# EAGLE library part 8X2_LCD (library custom)
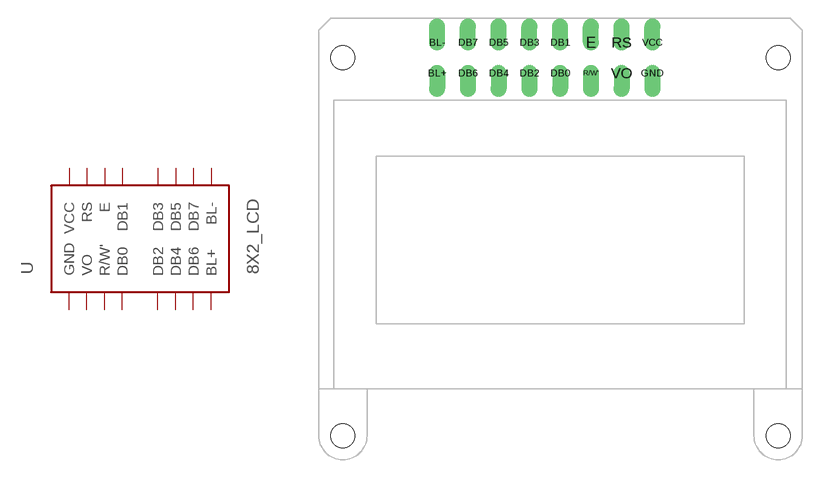
[diagram p3: symbol with the pads of 8X2_LCD_40MM; footprint 8X2_LCD_40MM]

Designator prefix -

## 8X2_LCD  [8X2_LCD_40MM]
BL+  BL+
BL-  BL-  pas
DB0  DB0
DB1  DB1
DB2  DB2
DB3  DB3
DB4  DB4
DB5  DB5
DB6  DB6
DB7  DB7
E  E  in
GND  GND
R/W'  R/W'
RS  RS  in
VCC  VCC  pwr
VO  VO

## Footprint 8X2_LCD_40MM (pad centres in mm)
drill 0.8 offset: BL+ -8.89,-1.27; BL- -8.89,1.27; DB0 1.27,-1.27; DB1 1.27,1.27; DB2 -1.27,-1.27; DB3 -1.27,1.27; DB4 -3.81,-1.27; DB5 -3.81,1.27; DB6 -6.35,-1.27; DB7 -6.35,1.27; E 3.81,1.27; GND 8.89,-1.27; R/W' 3.81,-1.27; RS 6.35,1.27; VCC 8.89,1.27; VO 6.35,-1.27
hole 2 at -16.69,0
hole 2 at 19.29,0
hole 2 at -16.69,-31.28
hole 2 at 19.29,-31.28